# EAGLE library part MPT7 (library pluggable_terminal_blocks)
PHOENIX CONNECTOR
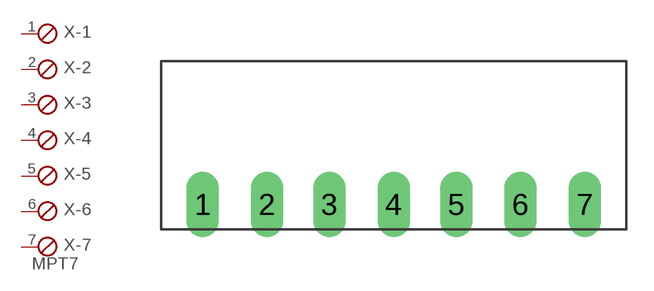
[diagram p1: symbol with the pads of 7POL35; footprint 7POL35]

Designator prefix X; gates -1=SKB -2=SKB -3=SKB -4=SKB -5=SKB -6=SKB -7=SKBV

## MPT7  [7POL35]
1  -1:1  pas
2  -2:1  pas
3  -3:1  pas
4  -4:1  pas
5  -5:1  pas
6  -6:1  pas
7  -7:1  pas

## Footprint 7POL35 (pad centres in mm)
PHOENIX CONNECTOR
drill 1.2 long: 1 -10.52,0; 2 -6.98,0; 3 -3.54,0; 4 0,0; 5 3.44,0; 6 6.98,0; 7 10.52,0